# EAGLE library part AS5600 (library SIH26113_Maternity_Assist_Belt)
ams-OSRAM AS5600-ASOM 12-bit contactless magnetic rotary position sensor, SOIC-8. Fixed I2C address 0x36. Pin map from AS5600 DS000365 v1-06 Figure 4.
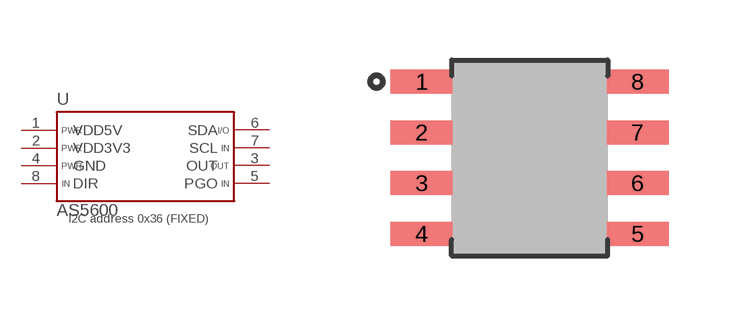
[diagram p4: symbol with the pads of SOIC-8-N; footprint SOIC-8-N]

Designator prefix U

## AS5600  [SOIC-8-N]
1  VDD5V  pwr
2  VDD3V3  pwr
3  OUT  out
4  GND  pwr
5  PGO  in
6  SDA
7  SCL  in
8  DIR  in

## Footprint SOIC-8-N (pad centres in mm)
SOIC-8 narrow (150 mil body). Body 4.90 x 3.90 mm, lead span 6.00 mm, 1.27 mm pitch. Lands 1.55 x 0.60 mm at 5.40 mm span (IPC-7351B SOIC127P600X175-8N Nominal).
smd 1.55 x 0.6: 1 -2.7,1.905; 2 -2.7,0.635; 3 -2.7,-0.635; 4 -2.7,-1.905; 5 2.7,-1.905; 6 2.7,-0.635; 7 2.7,0.635; 8 2.7,1.905